# Altium schematic symbol library Infineon_BTN7970B.SchLib: 1 symbol
Pins are listed as number, name and electrical type; pins without a type are passive.

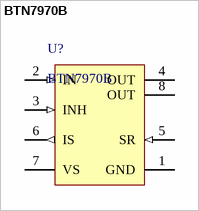
[diagram p0: symbol BTN7970B]

## BTN7970B
designator U?
High Current PN Half Bridge NovalithIC, 5.5 to 28 V, -40 to 150 degC, PG-TO263-7-1, Reel, Green; Manufacturer: Infineon; Protect: OV, UV, OT, OC; RDS(on) (typ): 16 m Ohm; ID(lim) (min): 50 A; Iq (typ): 7 uA; VS (max): 45 V; Inhibit: TRUE; ID(lim): 70 A; Group: NovalithIC; PartNumber: BTN7970B; ComponentLink1Description: Manufacturer URL; ComponentLink2Description: Datasheet; DatasheetVersion: Rev. 1.1; ComponentLink3URL: http://www.infineon.com/dgdl/TLE5205-2_DS_11%5B1%5D.pdf?folderId=db3a30431b3e89eb011bb632994f065b&fileId=db3a30431f848401011fc747c7a0797f&sId=db3a30433d68e984013d7d43135b5b6a; ComponentLink1URL: http://www.infineon.com/; ComponentLink2URL: http://www.infineon.com/dgdl/BTN7970_DS_11.pdf?folderId=db3a3043156fd5730116144c5d101c30&fileId=db3a304316f66ee80117642373746a89&location=en.Products.Automotive_ICs.Motor_Drivers__Automotive_.Integrated_High_Current_Motor_Drivers__NovalithIC____Trilith_IC_; PackageReference: PG-TO263-7-1; ComponentLink3Description: Package Specification; Operating Range: 5.5 to 28 V; Green: TRUE; PackageVersion: May-07; Halogen-free: TRUE; Mounting Technology: Surface Mount; PackageDescription: 7-Pin Plastic (Green) Transistor Single Outline Package, 9.25 x 10 mm Body, 1.27 mm Pitch
footprint INF-PG-TO263-7-1_M
footprint INF-PG-TO263-7-1_N
footprint INF-PG-TO263-7-1_L
pins: 1 GND (power) "Ground", 2 IN (in) "Input Defines whether high- or lowside switch is activated", 3 INH (in) "Inhibit When set to low device goes in sleep mode", 4 OUT (power) "Power output of the bridge", 5 SR (in) "Slew Rate The slew rate of the power switches can be adjusted by connecting a resistor between SR and GND", 6 IS (out) "Current Sense and Diagnostics", 7 VS (power) "Supply", 8 OUT (power) "Power output of the bridge"